# Altium footprint library Connector_PinHeader_2.00mm.PcbLib: 278 footprints (part 8 of 18)
Each footprint in its own frame and in the unit in brackets; x right, y up, seen from the top. Pads: shape width x height; smd on the part's side, far side on the other; paste and mask are expansions set on the pad; w line width, h text height; cw(c..) or ccw(c..) is an arc to the next point about the centre after c.
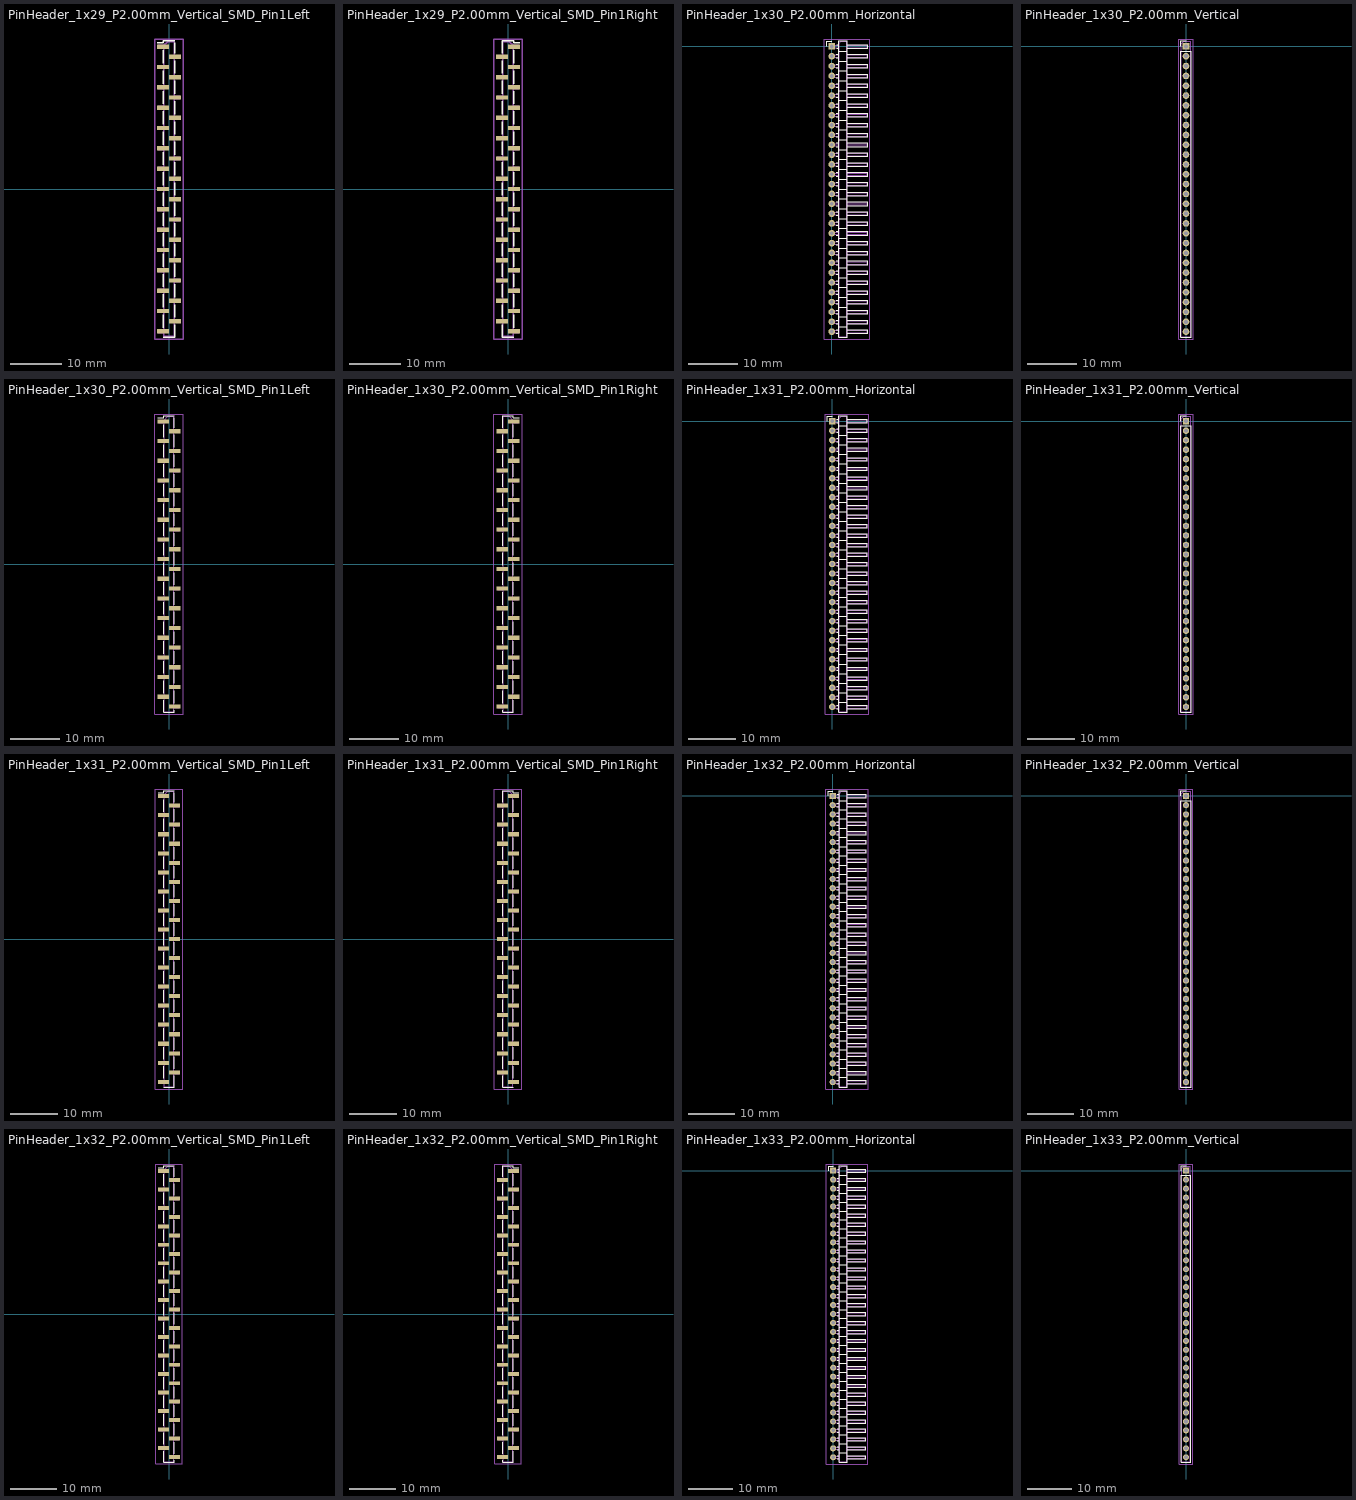
[diagram p7: the footprints below, top view; thin cyan lines are the x and y axes]

## PinHeader_1x29_P2.00mm_Vertical_SMD_Pin1Left [mm]
pads (29):
  rect 2.35x0.85 smd: 1(-1.175,28) 2(1.175,26) 3(-1.175,24) 4(1.175,22) 5(-1.175,20) 6(1.175,18) 7(-1.175,16) 8(1.175,14) 9(-1.175,12) 10(1.175,10) 11(-1.175,8) 12(1.175,6) 13(-1.175,4) 14(1.175,2) 15(-1.175,0) 16(1.175,-2) 17(-1.175,-4) 18(1.175,-6) 19(-1.175,-8) 20(1.175,-10) 21(-1.175,-12) 22(1.175,-14) 23(-1.175,-16) 24(1.175,-18) 25(-1.175,-20) 26(1.175,-22) 27(-1.175,-24) 28(1.175,-26) 29(-1.175,-28)
F.SilkS:
  lines w0.254: -2.29,28.735 -1.11,28.735 -1.11,29.11 1.11,29.11 ; -1.11,-29.11 1.11,-29.11 ; -1.11,-27.265 -1.11,-24.735 ; -1.11,-23.265 -1.11,-20.735 ; -1.11,-19.265 -1.11,-16.735 ; -1.11,-15.265 -1.11,-12.735 ; -1.11,-11.265 -1.11,-8.735 ; -1.11,-7.265 -1.11,-4.735 ; -1.11,-3.265 -1.11,-0.735 ; -1.11,0.735 -1.11,3.265 ; -1.11,4.735 -1.11,7.265 ; -1.11,8.735 -1.11,11.265 ; -1.11,12.735 -1.11,15.265 ; -1.11,16.735 -1.11,19.265 ; -1.11,20.735 -1.11,23.265 ; -1.11,24.735 -1.11,27.265 ; 1.11,-28.735 1.11,-29.11 ; 1.11,-26.735 1.11,-29.11 ; 1.11,-25.265 1.11,-22.735 ; 1.11,-21.265 1.11,-18.735 ; 1.11,-17.265 1.11,-14.735 ; 1.11,-13.265 1.11,-10.735 ; 1.11,-9.265 1.11,-6.735 ; 1.11,-5.265 1.11,-2.735 ; 1.11,-1.265 1.11,1.265 ; 1.11,2.735 1.11,5.265 ; 1.11,6.735 1.11,9.265 ; 1.11,10.735 1.11,13.265 ; 1.11,14.735 1.11,17.265 ; 1.11,18.735 1.11,21.265 ; 1.11,22.735 1.11,25.265 ; 1.11,26.735 1.11,28.735
Top Assembly:
  lines w0.254: -1,-28.25 -2.1,-28.25 -2.1,-27.75 -1,-27.75 ; -1,-24.25 -2.1,-24.25 -2.1,-23.75 -1,-23.75 ; -1,-20.25 -2.1,-20.25 -2.1,-19.75 -1,-19.75 ; -1,-16.25 -2.1,-16.25 -2.1,-15.75 -1,-15.75 ; -1,-12.25 -2.1,-12.25 -2.1,-11.75 -1,-11.75 ; -1,-8.25 -2.1,-8.25 -2.1,-7.75 -1,-7.75 ; -1,-4.25 -2.1,-4.25 -2.1,-3.75 -1,-3.75 ; -1,-0.25 -2.1,-0.25 -2.1,0.25 -1,0.25 ; -1,3.75 -2.1,3.75 -2.1,4.25 -1,4.25 ; -1,7.75 -2.1,7.75 -2.1,8.25 -1,8.25 ; -1,11.75 -2.1,11.75 -2.1,12.25 -1,12.25 ; -1,15.75 -2.1,15.75 -2.1,16.25 -1,16.25 ; -1,19.75 -2.1,19.75 -2.1,20.25 -1,20.25 ; -1,23.75 -2.1,23.75 -2.1,24.25 -1,24.25 ; -1,27.75 -2.1,27.75 -2.1,28.25 -1,28.25 ; 1,-26.25 2.1,-26.25 2.1,-25.75 1,-25.75 ; 1,-22.25 2.1,-22.25 2.1,-21.75 1,-21.75 ; 1,-18.25 2.1,-18.25 2.1,-17.75 1,-17.75 ; 1,-14.25 2.1,-14.25 2.1,-13.75 1,-13.75 ; 1,-10.25 2.1,-10.25 2.1,-9.75 1,-9.75 ; 1,-6.25 2.1,-6.25 2.1,-5.75 1,-5.75 ; 1,-2.25 2.1,-2.25 2.1,-1.75 1,-1.75 ; 1,1.75 2.1,1.75 2.1,2.25 1,2.25 ; 1,5.75 2.1,5.75 2.1,6.25 1,6.25 ; 1,9.75 2.1,9.75 2.1,10.25 1,10.25 ; 1,13.75 2.1,13.75 2.1,14.25 1,14.25 ; 1,17.75 2.1,17.75 2.1,18.25 1,18.25 ; 1,21.75 2.1,21.75 2.1,22.25 1,22.25 ; 1,25.75 2.1,25.75 2.1,26.25 1,26.25 ; -1,28.25 -1,-29 1,-29 1,29 -0.25,29 -1,28.25
  text "'.Designator'" at 0.84,-4.047 h1
Top Courtyard:
  lines w0.254: -2.85,-29.5 2.85,-29.5 2.85,29.5 -2.85,29.5 -2.85,-29.5
Top Designator:
  text ".Designator" at -7.618,-0.508 h1.52

## PinHeader_1x29_P2.00mm_Vertical_SMD_Pin1Right [mm]
pads (29):
  rect 2.35x0.85 smd: 1(1.175,28) 2(-1.175,26) 3(1.175,24) 4(-1.175,22) 5(1.175,20) 6(-1.175,18) 7(1.175,16) 8(-1.175,14) 9(1.175,12) 10(-1.175,10) 11(1.175,8) 12(-1.175,6) 13(1.175,4) 14(-1.175,2) 15(1.175,0) 16(-1.175,-2) 17(1.175,-4) 18(-1.175,-6) 19(1.175,-8) 20(-1.175,-10) 21(1.175,-12) 22(-1.175,-14) 23(1.175,-16) 24(-1.175,-18) 25(1.175,-20) 26(-1.175,-22) 27(1.175,-24) 28(-1.175,-26) 29(1.175,-28)
F.SilkS:
  lines w0.254: -1.11,-28.735 -1.11,-29.11 ; -1.11,-26.735 -1.11,-29.11 ; -1.11,-25.265 -1.11,-22.735 ; -1.11,-21.265 -1.11,-18.735 ; -1.11,-17.265 -1.11,-14.735 ; -1.11,-13.265 -1.11,-10.735 ; -1.11,-9.265 -1.11,-6.735 ; -1.11,-5.265 -1.11,-2.735 ; -1.11,-1.265 -1.11,1.265 ; -1.11,2.735 -1.11,5.265 ; -1.11,6.735 -1.11,9.265 ; -1.11,10.735 -1.11,13.265 ; -1.11,14.735 -1.11,17.265 ; -1.11,18.735 -1.11,21.265 ; -1.11,22.735 -1.11,25.265 ; -1.11,28.735 -1.11,26.735 -1.11,29.11 1.11,29.11 1.11,28.735 2.29,28.735 ; 1.11,-29.11 -1.11,-29.11 ; 1.11,-27.265 1.11,-24.735 ; 1.11,-23.265 1.11,-20.735 ; 1.11,-19.265 1.11,-16.735 ; 1.11,-15.265 1.11,-12.735 ; 1.11,-11.265 1.11,-8.735 ; 1.11,-7.265 1.11,-4.735 ; 1.11,-3.265 1.11,-0.735 ; 1.11,0.735 1.11,3.265 ; 1.11,4.735 1.11,7.265 ; 1.11,8.735 1.11,11.265 ; 1.11,12.735 1.11,15.265 ; 1.11,16.735 1.11,19.265 ; 1.11,20.735 1.11,23.265 ; 1.11,24.735 1.11,27.265
Top Assembly:
  lines w0.254: -1,-26.25 -2.1,-26.25 -2.1,-25.75 -1,-25.75 ; -1,-22.25 -2.1,-22.25 -2.1,-21.75 -1,-21.75 ; -1,-18.25 -2.1,-18.25 -2.1,-17.75 -1,-17.75 ; -1,-14.25 -2.1,-14.25 -2.1,-13.75 -1,-13.75 ; -1,-10.25 -2.1,-10.25 -2.1,-9.75 -1,-9.75 ; -1,-6.25 -2.1,-6.25 -2.1,-5.75 -1,-5.75 ; -1,-2.25 -2.1,-2.25 -2.1,-1.75 -1,-1.75 ; -1,1.75 -2.1,1.75 -2.1,2.25 -1,2.25 ; -1,5.75 -2.1,5.75 -2.1,6.25 -1,6.25 ; -1,9.75 -2.1,9.75 -2.1,10.25 -1,10.25 ; -1,13.75 -2.1,13.75 -2.1,14.25 -1,14.25 ; -1,17.75 -2.1,17.75 -2.1,18.25 -1,18.25 ; -1,21.75 -2.1,21.75 -2.1,22.25 -1,22.25 ; -1,25.75 -2.1,25.75 -2.1,26.25 -1,26.25 ; 1,-28.25 2.1,-28.25 2.1,-27.75 1,-27.75 ; 1,-24.25 2.1,-24.25 2.1,-23.75 1,-23.75 ; 1,-20.25 2.1,-20.25 2.1,-19.75 1,-19.75 ; 1,-16.25 2.1,-16.25 2.1,-15.75 1,-15.75 ; 1,-12.25 2.1,-12.25 2.1,-11.75 1,-11.75 ; 1,-8.25 2.1,-8.25 2.1,-7.75 1,-7.75 ; 1,-4.25 2.1,-4.25 2.1,-3.75 1,-3.75 ; 1,-0.25 2.1,-0.25 2.1,0.25 1,0.25 ; 1,3.75 2.1,3.75 2.1,4.25 1,4.25 ; 1,7.75 2.1,7.75 2.1,8.25 1,8.25 ; 1,11.75 2.1,11.75 2.1,12.25 1,12.25 ; 1,15.75 2.1,15.75 2.1,16.25 1,16.25 ; 1,19.75 2.1,19.75 2.1,20.25 1,20.25 ; 1,23.75 2.1,23.75 2.1,24.25 1,24.25 ; 1,27.75 2.1,27.75 2.1,28.25 1,28.25 ; 1,28.25 1,-29 -1,-29 -1,29 0.25,29 1,28.25
  text "'.Designator'" at 0.84,-4.047 h1
Top Courtyard:
  lines w0.254: -2.85,-29.5 2.85,-29.5 2.85,29.5 -2.85,29.5 -2.85,-29.5
Top Designator:
  text ".Designator" at -7.618,-0.508 h1.52

## PinHeader_1x30_P2.00mm_Horizontal [mm]
pads (30):
  rect 1.35x1.35 hole 0.8: 1(0,0)
  round 1.35 hole 0.8: 2(0,-2) 3(0,-4) 4(0,-6) 5(0,-8) 6(0,-10) 7(0,-12) 8(0,-14) 9(0,-16) 10(0,-18) 11(0,-20) 12(0,-22) 13(0,-24) 14(0,-26) 15(0,-28) 16(0,-30) 17(0,-32) 18(0,-34) 19(0,-36) 20(0,-38) 21(0,-40) 22(0,-42) 23(0,-44) 24(0,-46) 25(0,-48) 26(0,-50) 27(0,-52) 28(0,-54) 29(0,-56) 30(0,-58)
F.SilkS:
  drawing of 186 lines, arcs and shapes, not listed
Top Assembly:
  drawing of 185 lines, arcs and shapes, not listed
  text "'.Designator'" at 3.006,-32.642 h0.9
Top Courtyard:
  lines w0.254: -1.5,-59.5 7.7,-59.5 7.7,1.5 -1.5,1.5 -1.5,-59.5
Top Designator:
  text ".Designator" at -4.518,-29.508 h1.52

## PinHeader_1x30_P2.00mm_Vertical [mm]
pads (30):
  rect 1.35x1.35 hole 0.8: 1(0,0)
  round 1.35 hole 0.8: 2(0,-2) 3(0,-4) 4(0,-6) 5(0,-8) 6(0,-10) 7(0,-12) 8(0,-14) 9(0,-16) 10(0,-18) 11(0,-20) 12(0,-22) 13(0,-24) 14(0,-26) 15(0,-28) 16(0,-30) 17(0,-32) 18(0,-34) 19(0,-36) 20(0,-38) 21(0,-40) 22(0,-42) 23(0,-44) 24(0,-46) 25(0,-48) 26(0,-50) 27(0,-52) 28(0,-54) 29(0,-56) 30(0,-58)
F.SilkS:
  lines w0.254: -1.11,0 -1.11,1.11 0,1.11 ; -1.11,-59.11 1.11,-59.11 1.11,-1 -1.11,-1 -1.11,-59.11
Top Assembly:
  lines w0.254: -1,-59 1,-59 1,1 -0.5,1 -1,0.5 -1,-59
  text "'.Designator'" at 0.84,-33.047 h1
Top Courtyard:
  lines w0.254: -1.5,-59.5 1.5,-59.5 1.5,1.5 -1.5,1.5 -1.5,-59.5
Top Designator:
  text ".Designator" at -7.618,-29.508 h1.52

## PinHeader_1x30_P2.00mm_Vertical_SMD_Pin1Left [mm]
pads (30):
  rect 2.35x0.85 smd: 1(-1.175,29) 2(1.175,27) 3(-1.175,25) 4(1.175,23) 5(-1.175,21) 6(1.175,19) 7(-1.175,17) 8(1.175,15) 9(-1.175,13) 10(1.175,11) 11(-1.175,9) 12(1.175,7) 13(-1.175,5) 14(1.175,3) 15(-1.175,1) 16(1.175,-1) 17(-1.175,-3) 18(1.175,-5) 19(-1.175,-7) 20(1.175,-9) 21(-1.175,-11) 22(1.175,-13) 23(-1.175,-15) 24(1.175,-17) 25(-1.175,-19) 26(1.175,-21) 27(-1.175,-23) 28(1.175,-25) 29(-1.175,-27) 30(1.175,-29)
F.SilkS:
  lines w0.254: -2.29,29.735 -1.11,29.735 -1.11,30.11 1.11,30.11 ; -1.11,-27.735 -1.11,-30.11 1.11,-30.11 1.11,-29.735 ; -1.11,-26.265 -1.11,-23.735 ; -1.11,-22.265 -1.11,-19.735 ; -1.11,-18.265 -1.11,-15.735 ; -1.11,-14.265 -1.11,-11.735 ; -1.11,-10.265 -1.11,-7.735 ; -1.11,-6.265 -1.11,-3.735 ; -1.11,-2.265 -1.11,0.265 ; -1.11,1.735 -1.11,4.265 ; -1.11,5.735 -1.11,8.265 ; -1.11,9.735 -1.11,12.265 ; -1.11,13.735 -1.11,16.265 ; -1.11,17.735 -1.11,20.265 ; -1.11,21.735 -1.11,24.265 ; -1.11,25.735 -1.11,28.265 ; 1.11,-28.265 1.11,-25.735 ; 1.11,-24.265 1.11,-21.735 ; 1.11,-20.265 1.11,-17.735 ; 1.11,-16.265 1.11,-13.735 ; 1.11,-12.265 1.11,-9.735 ; 1.11,-8.265 1.11,-5.735 ; 1.11,-4.265 1.11,-1.735 ; 1.11,-0.265 1.11,2.265 ; 1.11,3.735 1.11,6.265 ; 1.11,7.735 1.11,10.265 ; 1.11,11.735 1.11,14.265 ; 1.11,15.735 1.11,18.265 ; 1.11,19.735 1.11,22.265 ; 1.11,23.735 1.11,26.265 ; 1.11,27.735 1.11,29.735
Top Assembly:
  lines w0.254: -1,-27.25 -2.1,-27.25 -2.1,-26.75 -1,-26.75 ; -1,-23.25 -2.1,-23.25 -2.1,-22.75 -1,-22.75 ; -1,-19.25 -2.1,-19.25 -2.1,-18.75 -1,-18.75 ; -1,-15.25 -2.1,-15.25 -2.1,-14.75 -1,-14.75 ; -1,-11.25 -2.1,-11.25 -2.1,-10.75 -1,-10.75 ; -1,-7.25 -2.1,-7.25 -2.1,-6.75 -1,-6.75 ; -1,-3.25 -2.1,-3.25 -2.1,-2.75 -1,-2.75 ; -1,0.75 -2.1,0.75 -2.1,1.25 -1,1.25 ; -1,4.75 -2.1,4.75 -2.1,5.25 -1,5.25 ; -1,8.75 -2.1,8.75 -2.1,9.25 -1,9.25 ; -1,12.75 -2.1,12.75 -2.1,13.25 -1,13.25 ; -1,16.75 -2.1,16.75 -2.1,17.25 -1,17.25 ; -1,20.75 -2.1,20.75 -2.1,21.25 -1,21.25 ; -1,24.75 -2.1,24.75 -2.1,25.25 -1,25.25 ; -1,28.75 -2.1,28.75 -2.1,29.25 -1,29.25 ; 1,-29.25 2.1,-29.25 2.1,-28.75 1,-28.75 ; 1,-25.25 2.1,-25.25 2.1,-24.75 1,-24.75 ; 1,-21.25 2.1,-21.25 2.1,-20.75 1,-20.75 ; 1,-17.25 2.1,-17.25 2.1,-16.75 1,-16.75 ; 1,-13.25 2.1,-13.25 2.1,-12.75 1,-12.75 ; 1,-9.25 2.1,-9.25 2.1,-8.75 1,-8.75 ; 1,-5.25 2.1,-5.25 2.1,-4.75 1,-4.75 ; 1,-1.25 2.1,-1.25 2.1,-0.75 1,-0.75 ; 1,2.75 2.1,2.75 2.1,3.25 1,3.25 ; 1,6.75 2.1,6.75 2.1,7.25 1,7.25 ; 1,10.75 2.1,10.75 2.1,11.25 1,11.25 ; 1,14.75 2.1,14.75 2.1,15.25 1,15.25 ; 1,18.75 2.1,18.75 2.1,19.25 1,19.25 ; 1,22.75 2.1,22.75 2.1,23.25 1,23.25 ; 1,26.75 2.1,26.75 2.1,27.25 1,27.25 ; -1,29.25 -1,-30 1,-30 1,30 -0.25,30 -1,29.25
  text "'.Designator'" at 0.84,-4.047 h1
Top Courtyard:
  lines w0.254: -2.85,-30.5 2.85,-30.5 2.85,30.5 -2.85,30.5 -2.85,-30.5
Top Designator:
  text ".Designator" at -7.618,-0.508 h1.52

## PinHeader_1x30_P2.00mm_Vertical_SMD_Pin1Right [mm]
pads (30):
  rect 2.35x0.85 smd: 1(1.175,29) 2(-1.175,27) 3(1.175,25) 4(-1.175,23) 5(1.175,21) 6(-1.175,19) 7(1.175,17) 8(-1.175,15) 9(1.175,13) 10(-1.175,11) 11(1.175,9) 12(-1.175,7) 13(1.175,5) 14(-1.175,3) 15(1.175,1) 16(-1.175,-1) 17(1.175,-3) 18(-1.175,-5) 19(1.175,-7) 20(-1.175,-9) 21(1.175,-11) 22(-1.175,-13) 23(1.175,-15) 24(-1.175,-17) 25(1.175,-19) 26(-1.175,-21) 27(1.175,-23) 28(-1.175,-25) 29(1.175,-27) 30(-1.175,-29)
F.SilkS:
  lines w0.254: -1.11,-29.735 -1.11,-30.11 1.11,-30.11 1.11,-27.735 ; -1.11,-28.265 -1.11,-25.735 ; -1.11,-24.265 -1.11,-21.735 ; -1.11,-20.265 -1.11,-17.735 ; -1.11,-16.265 -1.11,-13.735 ; -1.11,-12.265 -1.11,-9.735 ; -1.11,-8.265 -1.11,-5.735 ; -1.11,-4.265 -1.11,-1.735 ; -1.11,-0.265 -1.11,2.265 ; -1.11,3.735 -1.11,6.265 ; -1.11,7.735 -1.11,10.265 ; -1.11,11.735 -1.11,14.265 ; -1.11,15.735 -1.11,18.265 ; -1.11,19.735 -1.11,22.265 ; -1.11,23.735 -1.11,26.265 ; -1.11,29.735 -1.11,27.735 -1.11,30.11 1.11,30.11 1.11,29.735 2.29,29.735 ; 1.11,-26.265 1.11,-23.735 ; 1.11,-22.265 1.11,-19.735 ; 1.11,-18.265 1.11,-15.735 ; 1.11,-14.265 1.11,-11.735 ; 1.11,-10.265 1.11,-7.735 ; 1.11,-6.265 1.11,-3.735 ; 1.11,-2.265 1.11,0.265 ; 1.11,1.735 1.11,4.265 ; 1.11,5.735 1.11,8.265 ; 1.11,9.735 1.11,12.265 ; 1.11,13.735 1.11,16.265 ; 1.11,17.735 1.11,20.265 ; 1.11,21.735 1.11,24.265 ; 1.11,25.735 1.11,28.265
Top Assembly:
  lines w0.254: -1,-29.25 -2.1,-29.25 -2.1,-28.75 -1,-28.75 ; -1,-25.25 -2.1,-25.25 -2.1,-24.75 -1,-24.75 ; -1,-21.25 -2.1,-21.25 -2.1,-20.75 -1,-20.75 ; -1,-17.25 -2.1,-17.25 -2.1,-16.75 -1,-16.75 ; -1,-13.25 -2.1,-13.25 -2.1,-12.75 -1,-12.75 ; -1,-9.25 -2.1,-9.25 -2.1,-8.75 -1,-8.75 ; -1,-5.25 -2.1,-5.25 -2.1,-4.75 -1,-4.75 ; -1,-1.25 -2.1,-1.25 -2.1,-0.75 -1,-0.75 ; -1,2.75 -2.1,2.75 -2.1,3.25 -1,3.25 ; -1,6.75 -2.1,6.75 -2.1,7.25 -1,7.25 ; -1,10.75 -2.1,10.75 -2.1,11.25 -1,11.25 ; -1,14.75 -2.1,14.75 -2.1,15.25 -1,15.25 ; -1,18.75 -2.1,18.75 -2.1,19.25 -1,19.25 ; -1,22.75 -2.1,22.75 -2.1,23.25 -1,23.25 ; -1,26.75 -2.1,26.75 -2.1,27.25 -1,27.25 ; 1,-27.25 2.1,-27.25 2.1,-26.75 1,-26.75 ; 1,-23.25 2.1,-23.25 2.1,-22.75 1,-22.75 ; 1,-19.25 2.1,-19.25 2.1,-18.75 1,-18.75 ; 1,-15.25 2.1,-15.25 2.1,-14.75 1,-14.75 ; 1,-11.25 2.1,-11.25 2.1,-10.75 1,-10.75 ; 1,-7.25 2.1,-7.25 2.1,-6.75 1,-6.75 ; 1,-3.25 2.1,-3.25 2.1,-2.75 1,-2.75 ; 1,0.75 2.1,0.75 2.1,1.25 1,1.25 ; 1,4.75 2.1,4.75 2.1,5.25 1,5.25 ; 1,8.75 2.1,8.75 2.1,9.25 1,9.25 ; 1,12.75 2.1,12.75 2.1,13.25 1,13.25 ; 1,16.75 2.1,16.75 2.1,17.25 1,17.25 ; 1,20.75 2.1,20.75 2.1,21.25 1,21.25 ; 1,24.75 2.1,24.75 2.1,25.25 1,25.25 ; 1,28.75 2.1,28.75 2.1,29.25 1,29.25 ; 1,29.25 1,-30 -1,-30 -1,30 0.25,30 1,29.25
  text "'.Designator'" at 0.84,-4.047 h1
Top Courtyard:
  lines w0.254: -2.85,-30.5 2.85,-30.5 2.85,30.5 -2.85,30.5 -2.85,-30.5
Top Designator:
  text ".Designator" at -7.618,-0.508 h1.52

## PinHeader_1x31_P2.00mm_Horizontal [mm]
pads (31):
  rect 1.35x1.35 hole 0.8: 1(0,0)
  round 1.35 hole 0.8: 2(0,-2) 3(0,-4) 4(0,-6) 5(0,-8) 6(0,-10) 7(0,-12) 8(0,-14) 9(0,-16) 10(0,-18) 11(0,-20) 12(0,-22) 13(0,-24) 14(0,-26) 15(0,-28) 16(0,-30) 17(0,-32) 18(0,-34) 19(0,-36) 20(0,-38) 21(0,-40) 22(0,-42) 23(0,-44) 24(0,-46) 25(0,-48) 26(0,-50) 27(0,-52) 28(0,-54) 29(0,-56) 30(0,-58) 31(0,-60)
F.SilkS:
  drawing of 192 lines, arcs and shapes, not listed
Top Assembly:
  drawing of 191 lines, arcs and shapes, not listed
  text "'.Designator'" at 3.006,-33.642 h0.9
Top Courtyard:
  lines w0.254: -1.5,-61.5 7.7,-61.5 7.7,1.5 -1.5,1.5 -1.5,-61.5
Top Designator:
  text ".Designator" at -4.518,-30.508 h1.52

## PinHeader_1x31_P2.00mm_Vertical [mm]
pads (31):
  rect 1.35x1.35 hole 0.8: 1(0,0)
  round 1.35 hole 0.8: 2(0,-2) 3(0,-4) 4(0,-6) 5(0,-8) 6(0,-10) 7(0,-12) 8(0,-14) 9(0,-16) 10(0,-18) 11(0,-20) 12(0,-22) 13(0,-24) 14(0,-26) 15(0,-28) 16(0,-30) 17(0,-32) 18(0,-34) 19(0,-36) 20(0,-38) 21(0,-40) 22(0,-42) 23(0,-44) 24(0,-46) 25(0,-48) 26(0,-50) 27(0,-52) 28(0,-54) 29(0,-56) 30(0,-58) 31(0,-60)
F.SilkS:
  lines w0.254: -1.11,0 -1.11,1.11 0,1.11 ; -1.11,-61.11 1.11,-61.11 1.11,-1 -1.11,-1 -1.11,-61.11
Top Assembly:
  lines w0.254: -1,-61 1,-61 1,1 -0.5,1 -1,0.5 -1,-61
  text "'.Designator'" at 0.84,-34.047 h1
Top Courtyard:
  lines w0.254: -1.5,-61.5 1.5,-61.5 1.5,1.5 -1.5,1.5 -1.5,-61.5
Top Designator:
  text ".Designator" at -7.618,-30.508 h1.52

## PinHeader_1x31_P2.00mm_Vertical_SMD_Pin1Left [mm]
pads (31):
  rect 2.35x0.85 smd: 1(-1.175,30) 2(1.175,28) 3(-1.175,26) 4(1.175,24) 5(-1.175,22) 6(1.175,20) 7(-1.175,18) 8(1.175,16) 9(-1.175,14) 10(1.175,12) 11(-1.175,10) 12(1.175,8) 13(-1.175,6) 14(1.175,4) 15(-1.175,2) 16(1.175,0) 17(-1.175,-2) 18(1.175,-4) 19(-1.175,-6) 20(1.175,-8) 21(-1.175,-10) 22(1.175,-12) 23(-1.175,-14) 24(1.175,-16) 25(-1.175,-18) 26(1.175,-20) 27(-1.175,-22) 28(1.175,-24) 29(-1.175,-26) 30(1.175,-28) 31(-1.175,-30)
F.SilkS:
  lines w0.254: -2.29,30.735 -1.11,30.735 -1.11,31.11 1.11,31.11 ; -1.11,-31.11 1.11,-31.11 ; -1.11,-29.265 -1.11,-26.735 ; -1.11,-25.265 -1.11,-22.735 ; -1.11,-21.265 -1.11,-18.735 ; -1.11,-17.265 -1.11,-14.735 ; -1.11,-13.265 -1.11,-10.735 ; -1.11,-9.265 -1.11,-6.735 ; -1.11,-5.265 -1.11,-2.735 ; -1.11,-1.265 -1.11,1.265 ; -1.11,2.735 -1.11,5.265 ; -1.11,6.735 -1.11,9.265 ; -1.11,10.735 -1.11,13.265 ; -1.11,14.735 -1.11,17.265 ; -1.11,18.735 -1.11,21.265 ; -1.11,22.735 -1.11,25.265 ; -1.11,26.735 -1.11,29.265 ; 1.11,-30.735 1.11,-31.11 ; 1.11,-28.735 1.11,-31.11 ; 1.11,-27.265 1.11,-24.735 ; 1.11,-23.265 1.11,-20.735 ; 1.11,-19.265 1.11,-16.735 ; 1.11,-15.265 1.11,-12.735 ; 1.11,-11.265 1.11,-8.735 ; 1.11,-7.265 1.11,-4.735 ; 1.11,-3.265 1.11,-0.735 ; 1.11,0.735 1.11,3.265 ; 1.11,4.735 1.11,7.265 ; 1.11,8.735 1.11,11.265 ; 1.11,12.735 1.11,15.265 ; 1.11,16.735 1.11,19.265 ; 1.11,20.735 1.11,23.265 ; 1.11,24.735 1.11,27.265 ; 1.11,28.735 1.11,30.735
Top Assembly:
  lines w0.254: -1,-30.25 -2.1,-30.25 -2.1,-29.75 -1,-29.75 ; -1,-26.25 -2.1,-26.25 -2.1,-25.75 -1,-25.75 ; -1,-22.25 -2.1,-22.25 -2.1,-21.75 -1,-21.75 ; -1,-18.25 -2.1,-18.25 -2.1,-17.75 -1,-17.75 ; -1,-14.25 -2.1,-14.25 -2.1,-13.75 -1,-13.75 ; -1,-10.25 -2.1,-10.25 -2.1,-9.75 -1,-9.75 ; -1,-6.25 -2.1,-6.25 -2.1,-5.75 -1,-5.75 ; -1,-2.25 -2.1,-2.25 -2.1,-1.75 -1,-1.75 ; -1,1.75 -2.1,1.75 -2.1,2.25 -1,2.25 ; -1,5.75 -2.1,5.75 -2.1,6.25 -1,6.25 ; -1,9.75 -2.1,9.75 -2.1,10.25 -1,10.25 ; -1,13.75 -2.1,13.75 -2.1,14.25 -1,14.25 ; -1,17.75 -2.1,17.75 -2.1,18.25 -1,18.25 ; -1,21.75 -2.1,21.75 -2.1,22.25 -1,22.25 ; -1,25.75 -2.1,25.75 -2.1,26.25 -1,26.25 ; -1,29.75 -2.1,29.75 -2.1,30.25 -1,30.25 ; 1,-28.25 2.1,-28.25 2.1,-27.75 1,-27.75 ; 1,-24.25 2.1,-24.25 2.1,-23.75 1,-23.75 ; 1,-20.25 2.1,-20.25 2.1,-19.75 1,-19.75 ; 1,-16.25 2.1,-16.25 2.1,-15.75 1,-15.75 ; 1,-12.25 2.1,-12.25 2.1,-11.75 1,-11.75 ; 1,-8.25 2.1,-8.25 2.1,-7.75 1,-7.75 ; 1,-4.25 2.1,-4.25 2.1,-3.75 1,-3.75 ; 1,-0.25 2.1,-0.25 2.1,0.25 1,0.25 ; 1,3.75 2.1,3.75 2.1,4.25 1,4.25 ; 1,7.75 2.1,7.75 2.1,8.25 1,8.25 ; 1,11.75 2.1,11.75 2.1,12.25 1,12.25 ; 1,15.75 2.1,15.75 2.1,16.25 1,16.25 ; 1,19.75 2.1,19.75 2.1,20.25 1,20.25 ; 1,23.75 2.1,23.75 2.1,24.25 1,24.25 ; 1,27.75 2.1,27.75 2.1,28.25 1,28.25 ; -1,30.25 -1,-31 1,-31 1,31 -0.25,31 -1,30.25
  text "'.Designator'" at 0.84,-4.047 h1
Top Courtyard:
  lines w0.254: -2.85,-31.5 2.85,-31.5 2.85,31.5 -2.85,31.5 -2.85,-31.5
Top Designator:
  text ".Designator" at -7.618,-0.508 h1.52

## PinHeader_1x31_P2.00mm_Vertical_SMD_Pin1Right [mm]
pads (31):
  rect 2.35x0.85 smd: 1(1.175,30) 2(-1.175,28) 3(1.175,26) 4(-1.175,24) 5(1.175,22) 6(-1.175,20) 7(1.175,18) 8(-1.175,16) 9(1.175,14) 10(-1.175,12) 11(1.175,10) 12(-1.175,8) 13(1.175,6) 14(-1.175,4) 15(1.175,2) 16(-1.175,0) 17(1.175,-2) 18(-1.175,-4) 19(1.175,-6) 20(-1.175,-8) 21(1.175,-10) 22(-1.175,-12) 23(1.175,-14) 24(-1.175,-16) 25(1.175,-18) 26(-1.175,-20) 27(1.175,-22) 28(-1.175,-24) 29(1.175,-26) 30(-1.175,-28) 31(1.175,-30)
F.SilkS:
  lines w0.254: -1.11,-30.735 -1.11,-31.11 ; -1.11,-28.735 -1.11,-31.11 ; -1.11,-27.265 -1.11,-24.735 ; -1.11,-23.265 -1.11,-20.735 ; -1.11,-19.265 -1.11,-16.735 ; -1.11,-15.265 -1.11,-12.735 ; -1.11,-11.265 -1.11,-8.735 ; -1.11,-7.265 -1.11,-4.735 ; -1.11,-3.265 -1.11,-0.735 ; -1.11,0.735 -1.11,3.265 ; -1.11,4.735 -1.11,7.265 ; -1.11,8.735 -1.11,11.265 ; -1.11,12.735 -1.11,15.265 ; -1.11,16.735 -1.11,19.265 ; -1.11,20.735 -1.11,23.265 ; -1.11,24.735 -1.11,27.265 ; -1.11,30.735 -1.11,28.735 -1.11,31.11 1.11,31.11 1.11,30.735 2.29,30.735 ; 1.11,-31.11 -1.11,-31.11 ; 1.11,-29.265 1.11,-26.735 ; 1.11,-25.265 1.11,-22.735 ; 1.11,-21.265 1.11,-18.735 ; 1.11,-17.265 1.11,-14.735 ; 1.11,-13.265 1.11,-10.735 ; 1.11,-9.265 1.11,-6.735 ; 1.11,-5.265 1.11,-2.735 ; 1.11,-1.265 1.11,1.265 ; 1.11,2.735 1.11,5.265 ; 1.11,6.735 1.11,9.265 ; 1.11,10.735 1.11,13.265 ; 1.11,14.735 1.11,17.265 ; 1.11,18.735 1.11,21.265 ; 1.11,22.735 1.11,25.265 ; 1.11,26.735 1.11,29.265
Top Assembly:
  lines w0.254: -1,-28.25 -2.1,-28.25 -2.1,-27.75 -1,-27.75 ; -1,-24.25 -2.1,-24.25 -2.1,-23.75 -1,-23.75 ; -1,-20.25 -2.1,-20.25 -2.1,-19.75 -1,-19.75 ; -1,-16.25 -2.1,-16.25 -2.1,-15.75 -1,-15.75 ; -1,-12.25 -2.1,-12.25 -2.1,-11.75 -1,-11.75 ; -1,-8.25 -2.1,-8.25 -2.1,-7.75 -1,-7.75 ; -1,-4.25 -2.1,-4.25 -2.1,-3.75 -1,-3.75 ; -1,-0.25 -2.1,-0.25 -2.1,0.25 -1,0.25 ; -1,3.75 -2.1,3.75 -2.1,4.25 -1,4.25 ; -1,7.75 -2.1,7.75 -2.1,8.25 -1,8.25 ; -1,11.75 -2.1,11.75 -2.1,12.25 -1,12.25 ; -1,15.75 -2.1,15.75 -2.1,16.25 -1,16.25 ; -1,19.75 -2.1,19.75 -2.1,20.25 -1,20.25 ; -1,23.75 -2.1,23.75 -2.1,24.25 -1,24.25 ; -1,27.75 -2.1,27.75 -2.1,28.25 -1,28.25 ; 1,-30.25 2.1,-30.25 2.1,-29.75 1,-29.75 ; 1,-26.25 2.1,-26.25 2.1,-25.75 1,-25.75 ; 1,-22.25 2.1,-22.25 2.1,-21.75 1,-21.75 ; 1,-18.25 2.1,-18.25 2.1,-17.75 1,-17.75 ; 1,-14.25 2.1,-14.25 2.1,-13.75 1,-13.75 ; 1,-10.25 2.1,-10.25 2.1,-9.75 1,-9.75 ; 1,-6.25 2.1,-6.25 2.1,-5.75 1,-5.75 ; 1,-2.25 2.1,-2.25 2.1,-1.75 1,-1.75 ; 1,1.75 2.1,1.75 2.1,2.25 1,2.25 ; 1,5.75 2.1,5.75 2.1,6.25 1,6.25 ; 1,9.75 2.1,9.75 2.1,10.25 1,10.25 ; 1,13.75 2.1,13.75 2.1,14.25 1,14.25 ; 1,17.75 2.1,17.75 2.1,18.25 1,18.25 ; 1,21.75 2.1,21.75 2.1,22.25 1,22.25 ; 1,25.75 2.1,25.75 2.1,26.25 1,26.25 ; 1,29.75 2.1,29.75 2.1,30.25 1,30.25 ; 1,30.25 1,-31 -1,-31 -1,31 0.25,31 1,30.25
  text "'.Designator'" at 0.84,-4.047 h1
Top Courtyard:
  lines w0.254: -2.85,-31.5 2.85,-31.5 2.85,31.5 -2.85,31.5 -2.85,-31.5
Top Designator:
  text ".Designator" at -7.618,-0.508 h1.52

## PinHeader_1x32_P2.00mm_Horizontal [mm]
pads (32):
  rect 1.35x1.35 hole 0.8: 1(0,0)
  round 1.35 hole 0.8: 2(0,-2) 3(0,-4) 4(0,-6) 5(0,-8) 6(0,-10) 7(0,-12) 8(0,-14) 9(0,-16) 10(0,-18) 11(0,-20) 12(0,-22) 13(0,-24) 14(0,-26) 15(0,-28) 16(0,-30) 17(0,-32) 18(0,-34) 19(0,-36) 20(0,-38) 21(0,-40) 22(0,-42) 23(0,-44) 24(0,-46) 25(0,-48) 26(0,-50) 27(0,-52) 28(0,-54) 29(0,-56) 30(0,-58) 31(0,-60) 32(0,-62)
F.SilkS:
  drawing of 198 lines, arcs and shapes, not listed
Top Assembly:
  drawing of 197 lines, arcs and shapes, not listed
  text "'.Designator'" at 3.006,-34.642 h0.9
Top Courtyard:
  lines w0.254: -1.5,-63.5 7.7,-63.5 7.7,1.5 -1.5,1.5 -1.5,-63.5
Top Designator:
  text ".Designator" at -4.518,-31.508 h1.52

## PinHeader_1x32_P2.00mm_Vertical [mm]
pads (32):
  rect 1.35x1.35 hole 0.8: 1(0,0)
  round 1.35 hole 0.8: 2(0,-2) 3(0,-4) 4(0,-6) 5(0,-8) 6(0,-10) 7(0,-12) 8(0,-14) 9(0,-16) 10(0,-18) 11(0,-20) 12(0,-22) 13(0,-24) 14(0,-26) 15(0,-28) 16(0,-30) 17(0,-32) 18(0,-34) 19(0,-36) 20(0,-38) 21(0,-40) 22(0,-42) 23(0,-44) 24(0,-46) 25(0,-48) 26(0,-50) 27(0,-52) 28(0,-54) 29(0,-56) 30(0,-58) 31(0,-60) 32(0,-62)
F.SilkS:
  lines w0.254: -1.11,0 -1.11,1.11 0,1.11 ; -1.11,-63.11 1.11,-63.11 1.11,-1 -1.11,-1 -1.11,-63.11
Top Assembly:
  lines w0.254: -1,-63 1,-63 1,1 -0.5,1 -1,0.5 -1,-63
  text "'.Designator'" at 0.84,-35.047 h1
Top Courtyard:
  lines w0.254: -1.5,-63.5 1.5,-63.5 1.5,1.5 -1.5,1.5 -1.5,-63.5
Top Designator:
  text ".Designator" at -7.618,-31.508 h1.52

## PinHeader_1x32_P2.00mm_Vertical_SMD_Pin1Left [mm]
pads (32):
  rect 2.35x0.85 smd: 1(-1.175,31) 2(1.175,29) 3(-1.175,27) 4(1.175,25) 5(-1.175,23) 6(1.175,21) 7(-1.175,19) 8(1.175,17) 9(-1.175,15) 10(1.175,13) 11(-1.175,11) 12(1.175,9) 13(-1.175,7) 14(1.175,5) 15(-1.175,3) 16(1.175,1) 17(-1.175,-1) 18(1.175,-3) 19(-1.175,-5) 20(1.175,-7) 21(-1.175,-9) 22(1.175,-11) 23(-1.175,-13) 24(1.175,-15) 25(-1.175,-17) 26(1.175,-19) 27(-1.175,-21) 28(1.175,-23) 29(-1.175,-25) 30(1.175,-27) 31(-1.175,-29) 32(1.175,-31)
F.SilkS:
  lines w0.254: -2.29,31.735 -1.11,31.735 -1.11,32.11 1.11,32.11 ; -1.11,-29.735 -1.11,-32.11 1.11,-32.11 1.11,-31.735 ; -1.11,-28.265 -1.11,-25.735 ; -1.11,-24.265 -1.11,-21.735 ; -1.11,-20.265 -1.11,-17.735 ; -1.11,-16.265 -1.11,-13.735 ; -1.11,-12.265 -1.11,-9.735 ; -1.11,-8.265 -1.11,-5.735 ; -1.11,-4.265 -1.11,-1.735 ; -1.11,-0.265 -1.11,2.265 ; -1.11,3.735 -1.11,6.265 ; -1.11,7.735 -1.11,10.265 ; -1.11,11.735 -1.11,14.265 ; -1.11,15.735 -1.11,18.265 ; -1.11,19.735 -1.11,22.265 ; -1.11,23.735 -1.11,26.265 ; -1.11,27.735 -1.11,30.265 ; 1.11,-30.265 1.11,-27.735 ; 1.11,-26.265 1.11,-23.735 ; 1.11,-22.265 1.11,-19.735 ; 1.11,-18.265 1.11,-15.735 ; 1.11,-14.265 1.11,-11.735 ; 1.11,-10.265 1.11,-7.735 ; 1.11,-6.265 1.11,-3.735 ; 1.11,-2.265 1.11,0.265 ; 1.11,1.735 1.11,4.265 ; 1.11,5.735 1.11,8.265 ; 1.11,9.735 1.11,12.265 ; 1.11,13.735 1.11,16.265 ; 1.11,17.735 1.11,20.265 ; 1.11,21.735 1.11,24.265 ; 1.11,25.735 1.11,28.265 ; 1.11,29.735 1.11,31.735
Top Assembly:
  lines w0.254: -1,-29.25 -2.1,-29.25 -2.1,-28.75 -1,-28.75 ; -1,-25.25 -2.1,-25.25 -2.1,-24.75 -1,-24.75 ; -1,-21.25 -2.1,-21.25 -2.1,-20.75 -1,-20.75 ; -1,-17.25 -2.1,-17.25 -2.1,-16.75 -1,-16.75 ; -1,-13.25 -2.1,-13.25 -2.1,-12.75 -1,-12.75 ; -1,-9.25 -2.1,-9.25 -2.1,-8.75 -1,-8.75 ; -1,-5.25 -2.1,-5.25 -2.1,-4.75 -1,-4.75 ; -1,-1.25 -2.1,-1.25 -2.1,-0.75 -1,-0.75 ; -1,2.75 -2.1,2.75 -2.1,3.25 -1,3.25 ; -1,6.75 -2.1,6.75 -2.1,7.25 -1,7.25 ; -1,10.75 -2.1,10.75 -2.1,11.25 -1,11.25 ; -1,14.75 -2.1,14.75 -2.1,15.25 -1,15.25 ; -1,18.75 -2.1,18.75 -2.1,19.25 -1,19.25 ; -1,22.75 -2.1,22.75 -2.1,23.25 -1,23.25 ; -1,26.75 -2.1,26.75 -2.1,27.25 -1,27.25 ; -1,30.75 -2.1,30.75 -2.1,31.25 -1,31.25 ; 1,-31.25 2.1,-31.25 2.1,-30.75 1,-30.75 ; 1,-27.25 2.1,-27.25 2.1,-26.75 1,-26.75 ; 1,-23.25 2.1,-23.25 2.1,-22.75 1,-22.75 ; 1,-19.25 2.1,-19.25 2.1,-18.75 1,-18.75 ; 1,-15.25 2.1,-15.25 2.1,-14.75 1,-14.75 ; 1,-11.25 2.1,-11.25 2.1,-10.75 1,-10.75 ; 1,-7.25 2.1,-7.25 2.1,-6.75 1,-6.75 ; 1,-3.25 2.1,-3.25 2.1,-2.75 1,-2.75 ; 1,0.75 2.1,0.75 2.1,1.25 1,1.25 ; 1,4.75 2.1,4.75 2.1,5.25 1,5.25 ; 1,8.75 2.1,8.75 2.1,9.25 1,9.25 ; 1,12.75 2.1,12.75 2.1,13.25 1,13.25 ; 1,16.75 2.1,16.75 2.1,17.25 1,17.25 ; 1,20.75 2.1,20.75 2.1,21.25 1,21.25 ; 1,24.75 2.1,24.75 2.1,25.25 1,25.25 ; 1,28.75 2.1,28.75 2.1,29.25 1,29.25 ; -1,31.25 -1,-32 1,-32 1,32 -0.25,32 -1,31.25
  text "'.Designator'" at 0.84,-4.047 h1
Top Courtyard:
  lines w0.254: -2.85,-32.5 2.85,-32.5 2.85,32.5 -2.85,32.5 -2.85,-32.5
Top Designator:
  text ".Designator" at -7.618,-0.508 h1.52

## PinHeader_1x32_P2.00mm_Vertical_SMD_Pin1Right [mm]
pads (32):
  rect 2.35x0.85 smd: 1(1.175,31) 2(-1.175,29) 3(1.175,27) 4(-1.175,25) 5(1.175,23) 6(-1.175,21) 7(1.175,19) 8(-1.175,17) 9(1.175,15) 10(-1.175,13) 11(1.175,11) 12(-1.175,9) 13(1.175,7) 14(-1.175,5) 15(1.175,3) 16(-1.175,1) 17(1.175,-1) 18(-1.175,-3) 19(1.175,-5) 20(-1.175,-7) 21(1.175,-9) 22(-1.175,-11) 23(1.175,-13) 24(-1.175,-15) 25(1.175,-17) 26(-1.175,-19) 27(1.175,-21) 28(-1.175,-23) 29(1.175,-25) 30(-1.175,-27) 31(1.175,-29) 32(-1.175,-31)
F.SilkS:
  lines w0.254: -1.11,-31.735 -1.11,-32.11 1.11,-32.11 1.11,-29.735 ; -1.11,-30.265 -1.11,-27.735 ; -1.11,-26.265 -1.11,-23.735 ; -1.11,-22.265 -1.11,-19.735 ; -1.11,-18.265 -1.11,-15.735 ; -1.11,-14.265 -1.11,-11.735 ; -1.11,-10.265 -1.11,-7.735 ; -1.11,-6.265 -1.11,-3.735 ; -1.11,-2.265 -1.11,0.265 ; -1.11,1.735 -1.11,4.265 ; -1.11,5.735 -1.11,8.265 ; -1.11,9.735 -1.11,12.265 ; -1.11,13.735 -1.11,16.265 ; -1.11,17.735 -1.11,20.265 ; -1.11,21.735 -1.11,24.265 ; -1.11,25.735 -1.11,28.265 ; -1.11,31.735 -1.11,29.735 -1.11,32.11 1.11,32.11 1.11,31.735 2.29,31.735 ; 1.11,-28.265 1.11,-25.735 ; 1.11,-24.265 1.11,-21.735 ; 1.11,-20.265 1.11,-17.735 ; 1.11,-16.265 1.11,-13.735 ; 1.11,-12.265 1.11,-9.735 ; 1.11,-8.265 1.11,-5.735 ; 1.11,-4.265 1.11,-1.735 ; 1.11,-0.265 1.11,2.265 ; 1.11,3.735 1.11,6.265 ; 1.11,7.735 1.11,10.265 ; 1.11,11.735 1.11,14.265 ; 1.11,15.735 1.11,18.265 ; 1.11,19.735 1.11,22.265 ; 1.11,23.735 1.11,26.265 ; 1.11,27.735 1.11,30.265
Top Assembly:
  lines w0.254: -1,-31.25 -2.1,-31.25 -2.1,-30.75 -1,-30.75 ; -1,-27.25 -2.1,-27.25 -2.1,-26.75 -1,-26.75 ; -1,-23.25 -2.1,-23.25 -2.1,-22.75 -1,-22.75 ; -1,-19.25 -2.1,-19.25 -2.1,-18.75 -1,-18.75 ; -1,-15.25 -2.1,-15.25 -2.1,-14.75 -1,-14.75 ; -1,-11.25 -2.1,-11.25 -2.1,-10.75 -1,-10.75 ; -1,-7.25 -2.1,-7.25 -2.1,-6.75 -1,-6.75 ; -1,-3.25 -2.1,-3.25 -2.1,-2.75 -1,-2.75 ; -1,0.75 -2.1,0.75 -2.1,1.25 -1,1.25 ; -1,4.75 -2.1,4.75 -2.1,5.25 -1,5.25 ; -1,8.75 -2.1,8.75 -2.1,9.25 -1,9.25 ; -1,12.75 -2.1,12.75 -2.1,13.25 -1,13.25 ; -1,16.75 -2.1,16.75 -2.1,17.25 -1,17.25 ; -1,20.75 -2.1,20.75 -2.1,21.25 -1,21.25 ; -1,24.75 -2.1,24.75 -2.1,25.25 -1,25.25 ; -1,28.75 -2.1,28.75 -2.1,29.25 -1,29.25 ; 1,-29.25 2.1,-29.25 2.1,-28.75 1,-28.75 ; 1,-25.25 2.1,-25.25 2.1,-24.75 1,-24.75 ; 1,-21.25 2.1,-21.25 2.1,-20.75 1,-20.75 ; 1,-17.25 2.1,-17.25 2.1,-16.75 1,-16.75 ; 1,-13.25 2.1,-13.25 2.1,-12.75 1,-12.75 ; 1,-9.25 2.1,-9.25 2.1,-8.75 1,-8.75 ; 1,-5.25 2.1,-5.25 2.1,-4.75 1,-4.75 ; 1,-1.25 2.1,-1.25 2.1,-0.75 1,-0.75 ; 1,2.75 2.1,2.75 2.1,3.25 1,3.25 ; 1,6.75 2.1,6.75 2.1,7.25 1,7.25 ; 1,10.75 2.1,10.75 2.1,11.25 1,11.25 ; 1,14.75 2.1,14.75 2.1,15.25 1,15.25 ; 1,18.75 2.1,18.75 2.1,19.25 1,19.25 ; 1,22.75 2.1,22.75 2.1,23.25 1,23.25 ; 1,26.75 2.1,26.75 2.1,27.25 1,27.25 ; 1,30.75 2.1,30.75 2.1,31.25 1,31.25 ; 1,31.25 1,-32 -1,-32 -1,32 0.25,32 1,31.25
  text "'.Designator'" at 0.84,-4.047 h1
Top Courtyard:
  lines w0.254: -2.85,-32.5 2.85,-32.5 2.85,32.5 -2.85,32.5 -2.85,-32.5
Top Designator:
  text ".Designator" at -7.618,-0.508 h1.52

## PinHeader_1x33_P2.00mm_Horizontal [mm]
pads (33):
  rect 1.35x1.35 hole 0.8: 1(0,0)
  round 1.35 hole 0.8: 2(0,-2) 3(0,-4) 4(0,-6) 5(0,-8) 6(0,-10) 7(0,-12) 8(0,-14) 9(0,-16) 10(0,-18) 11(0,-20) 12(0,-22) 13(0,-24) 14(0,-26) 15(0,-28) 16(0,-30) 17(0,-32) 18(0,-34) 19(0,-36) 20(0,-38) 21(0,-40) 22(0,-42) 23(0,-44) 24(0,-46) 25(0,-48) 26(0,-50) 27(0,-52) 28(0,-54) 29(0,-56) 30(0,-58) 31(0,-60) 32(0,-62) 33(0,-64)
F.SilkS:
  drawing of 204 lines, arcs and shapes, not listed
Top Assembly:
  drawing of 203 lines, arcs and shapes, not listed
  text "'.Designator'" at 3.006,-35.642 h0.9
Top Courtyard:
  lines w0.254: -1.5,-65.5 7.7,-65.5 7.7,1.5 -1.5,1.5 -1.5,-65.5
Top Designator:
  text ".Designator" at -4.518,-32.508 h1.52

## PinHeader_1x33_P2.00mm_Vertical [mm]
pads (33):
  rect 1.35x1.35 hole 0.8: 1(0,0)
  round 1.35 hole 0.8: 2(0,-2) 3(0,-4) 4(0,-6) 5(0,-8) 6(0,-10) 7(0,-12) 8(0,-14) 9(0,-16) 10(0,-18) 11(0,-20) 12(0,-22) 13(0,-24) 14(0,-26) 15(0,-28) 16(0,-30) 17(0,-32) 18(0,-34) 19(0,-36) 20(0,-38) 21(0,-40) 22(0,-42) 23(0,-44) 24(0,-46) 25(0,-48) 26(0,-50) 27(0,-52) 28(0,-54) 29(0,-56) 30(0,-58) 31(0,-60) 32(0,-62) 33(0,-64)
F.SilkS:
  lines w0.254: -1.11,0 -1.11,1.11 0,1.11 ; -1.11,-65.11 1.11,-65.11 1.11,-1 -1.11,-1 -1.11,-65.11
Top Assembly:
  lines w0.254: -1,-65 1,-65 1,1 -0.5,1 -1,0.5 -1,-65
  text "'.Designator'" at 0.84,-36.047 h1
Top Courtyard:
  lines w0.254: -1.5,-65.5 1.5,-65.5 1.5,1.5 -1.5,1.5 -1.5,-65.5
Top Designator:
  text ".Designator" at -7.618,-32.508 h1.52